# Altium footprint library IS-uINS-3.PcbLib: 1 footprints
Each footprint in its own frame and in the unit in brackets; x right, y up, seen from the top. Pads: shape width x height; smd on the part's side, far side on the other; paste and mask are expansions set on the pad; w line width, h text height; cw(c..) or ccw(c..) is an arc to the next point about the centre after c.
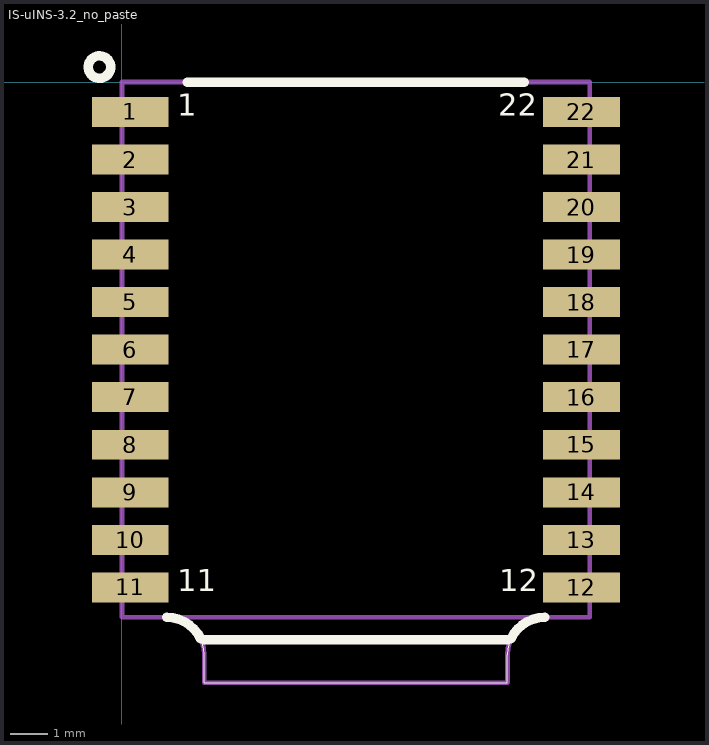
[diagram p0: the footprint, top view; thin cyan lines are the x and y axes]

## IS-uINS-3.2_no_paste [mm] "Inerial Sense uINS r3.2, 22pins 1.27mm pitch"
height 6.5
pads (22):
  rect 2.05x0.8 smd: 1(0.225,-0.8) 2(0.225,-2.07) 3(0.225,-3.34) 4(0.225,-4.61) 5(0.225,-5.88) 6(0.225,-7.15) 7(0.225,-8.42) 8(0.225,-9.69) 9(0.225,-10.96) 10(0.225,-12.23) 11(0.225,-13.5) 12(12.275,-13.5) 13(12.275,-12.23) 14(12.275,-10.96) 15(12.275,-9.69) 16(12.275,-8.42) 17(12.275,-7.15) 18(12.275,-5.88) 19(12.275,-4.61) 20(12.275,-3.34) 21(12.275,-2.07) 22(12.275,-0.8)
Top Overlay:
  circle w0.254: c-0.6,0.4 r0.3
  lines w0.025: 1.2,-14.3 cw(c1.2,-15.3) 2.2,-15.3 2.2,-16.05 10.3,-16.05 10.3,-15.3 cw(c11.3,-15.3) 11.3,-14.3
  lines w0.254: 1.2,-14.3 cw(c1.2,-15.3) 2.106,-14.877 ; 1.75,0 10.75,0 ; 2.2,-14.9 10.3,-14.9 ; 10.394,-14.877 cw(c11.3,-15.3) 11.3,-14.3
  text "22" at 10.048,-1.1 h1.02
  text "12" at 10.075,-13.8 h1.02
  text "11" at 1.473,-13.8 h1.02
  text "1" at 1.473,-1.1 h1.02
Mechanical 13:
  lines w0.127: 0,-14.3 1.2,-14.3 cw(c1.2,-15.3) 2.2,-15.3 2.2,-16.05 10.3,-16.05 10.3,-15.3 cw(c11.3,-15.3) 11.3,-14.3 12.5,-14.3 ; 0,-14.3 0,0 12.5,0 12.5,-14.3 ; 0,-14.3 12.5,-14.3
3D body "uINS-3p2-G2.step": height 4.61, standoff 0.01, extent 0,-15.954 12.5,0